# EAGLE library part 662022231722 (library Wire-to-Board (rev18a))
WR-MPC3 3.00mm Male Dual Row SMT Angled Header SMT Fitting Nail Clip, 22 Pins=>Code : Con_WTB_MPC3_2_PCB_SMT_662022231722 <http://katalog.we-online.de/media/thumbs2/eican/thb_Con_WTB_MPC3_2_PCB_SMT_6620xx231722_pf2.jpg> Details see: http://katalog.we-online.de/en/em/MPC3_3_00_SMT_MALE_DUAL_ROW_ANGLED_HEADER_W_SMT_SOLDER_TAB_6620XX231722 Created 2014-06-06, Karrer Zheng 2014 (C) Würth Elektronik
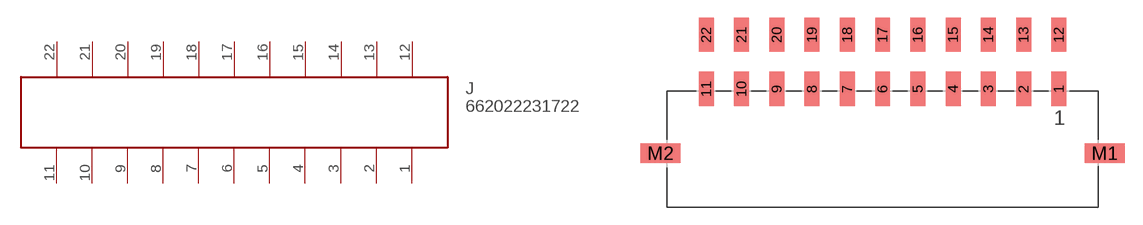
[diagram p398: symbol with the pads of 662022231722; footprint 662022231722]

Designator prefix J

## 662022231722  [662022231722]
1  1
2  2
3  3
4  4
5  5
6  6
7  7
8  8
9  9
10  10
11  11
12  12
13  13
14  14
15  15
16  16
17  17
18  18
19  19
20  20
21  21
22  22

## Footprint 662022231722 (pad centres in mm)
WR-MPC3 3.00mm Male Dual Row SMT Angled Header SMT Fitting Nail Clip, 22 Pins
smd 1.27 x 2.92: 1 15,5.48; 2 12,5.48; 3 9,5.48; 4 6,5.48; 5 3,5.48; 6 0,5.48; 7 -3,5.48; 8 -6,5.48; 9 -9,5.48; 10 -12,5.48; 11 -15,5.48; 12 15,10.1; 13 12,10.1; 14 9,10.1; 15 6,10.1; 16 3,10.1; 17 0,10.1; 18 -3,10.1; 19 -6,10.1; 20 -9,10.1; 21 -12,10.1; 22 -15,10.1
smd 3.43 x 1.65: M1 18.895,0; M2 -18.895,0